# Altium schematic symbol library S.ANALOG-G5-5A.schLib.SchLib: 9 symbols
Pins are listed as number, name and electrical type; pins without a type are passive.

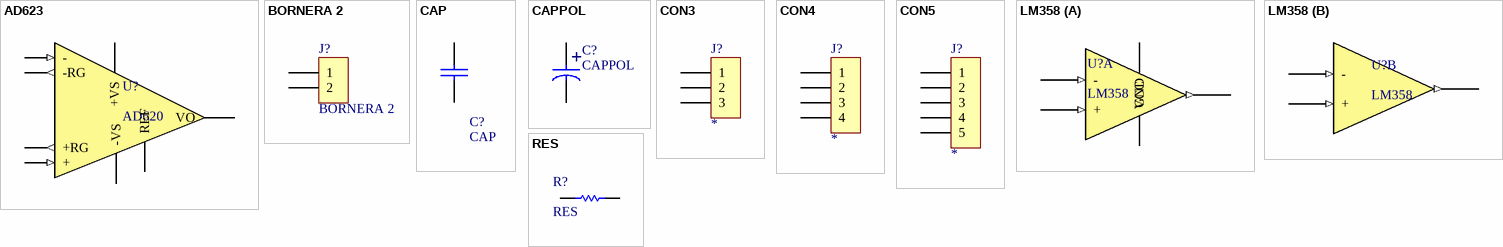
[diagram p0: symbols AD623 to RES]

## AD623
designator U?, comment AD620
footprint DIP8
pins: 1 -RG (out), 2 - (in), 3 + (in), 4 -VS, 5 REF (power), 6 VO (power), 7 +VS, 8 +RG (out)

## BORNERA 2
designator J?
footprint BORNERA2 (Bornera con Tornillos 5mm separaci�n)
pins: 1, 2

## CAP
designator C?
Autor: Guido Spataro; Data: Libebal; Fecha: 07/04/19
footprint 0805 (Pasivo 0805)
pins: 1, 2

## CAPPOL
designator C?
Cap polarizado
footprint Capol (Body diameter 6.5mm)
pins: 1, 2
text: +

## CON3
designator J?
footprint SIP3
pins: 1, 2, 3

## CON4
designator J?
footprint SIP4 90
footprint SIP4
pins: 1, 2, 3, 4

## CON5
designator J?
footprint SIP5 90
pins: 1, 2, 3, 4, 5

## LM358
designator U?
footprint DIP8
footprint LM358 SMD
part A pins: 1 OUT_A (out), 2 - (in), 3 + (in), 4 GND, 8 VCC
part B pins: 5 + (in), 6 - (in), 7 OUT_B (out)

## RES
designator R?
Resistencia; Autor: Guido Spataro; Data: Libebal; Fecha: 07/04/19
footprint 0805 (Pasivo 0805)
pins: 1, 2